# Altium footprint library BASIC Library.PCBLIB: 464 footprints (part 30 of 30)
Each footprint in its own frame and in the unit in brackets; x right, y up, seen from the top. Pads: shape width x height; smd on the part's side, far side on the other; paste and mask are expansions set on the pad; w line width, h text height; cw(c..) or ccw(c..) is an arc to the next point about the centre after c.
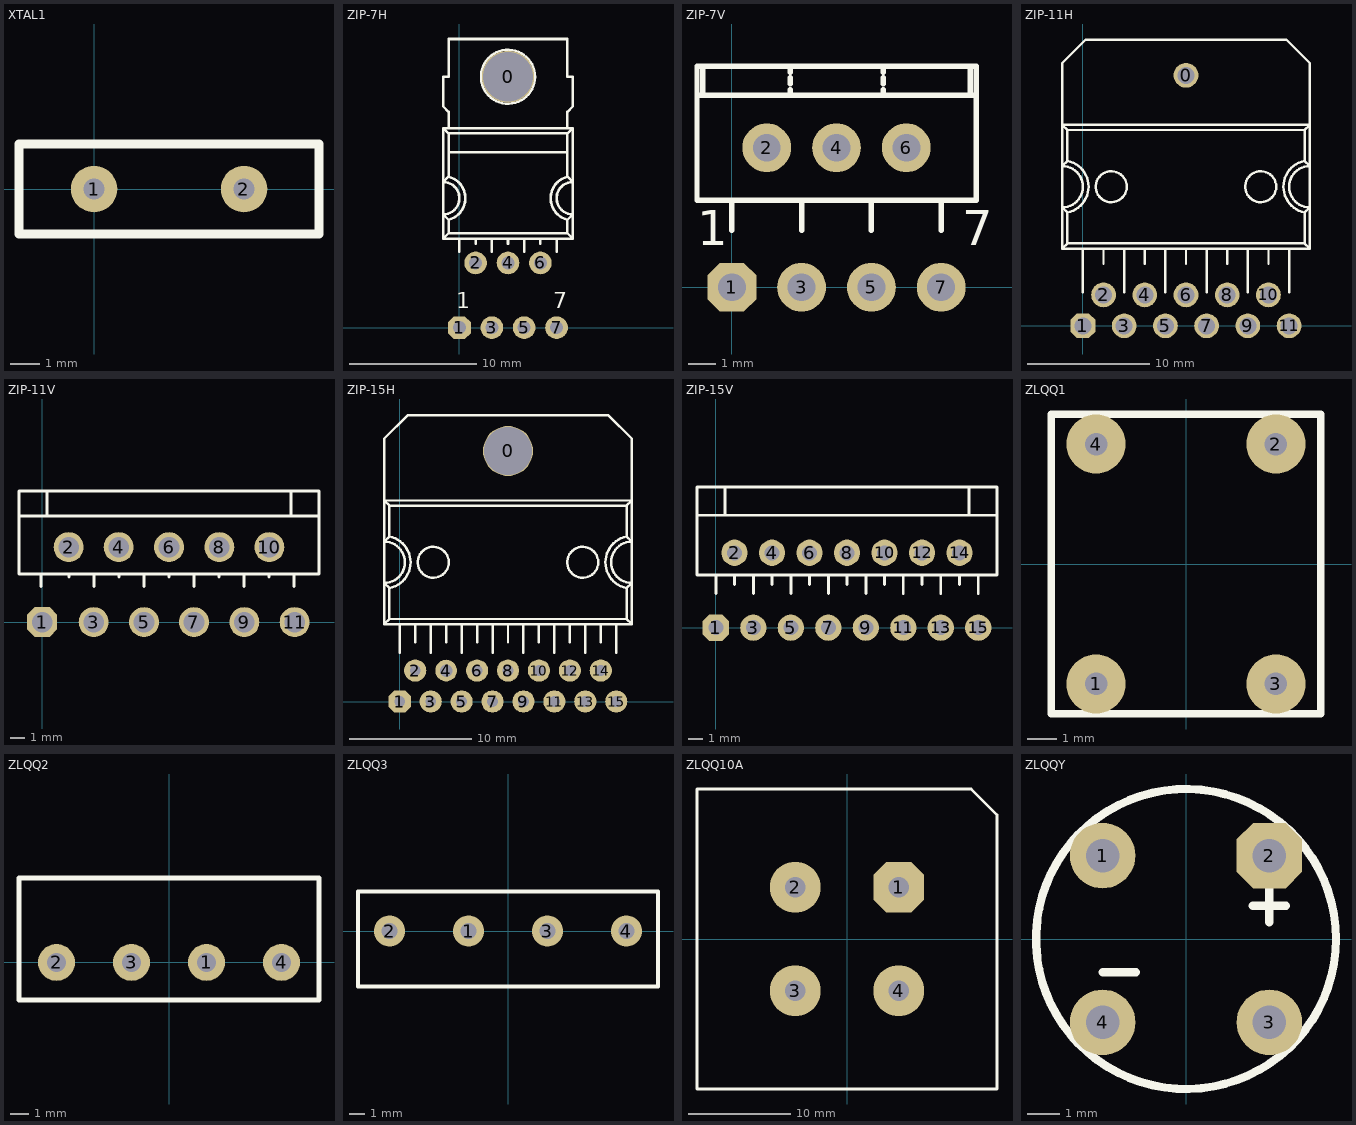
[diagram p29: the footprints below, top view; thin cyan lines are the x and y axes]

## XTAL1 [mil]
pads (2):
  round 62 hole 28: 1(0,0) 2(200,0)
TopOverlay:
  lines w12: -100,-60 300,-60 300,60 -100,60 -100,-60

## ZIP-7H [mil]
pads (8):
  round 161.65 hole 154.17: 0(150,775)
  oct 70x70 hole 40: 1(0,0)
  round 70 hole 40: 2(50,200) 3(100,0) 4(150,200) 5(200,0) 6(250,200) 7(300,0)
TopOverlay:
  circle w8: c150,775 r83.33
  lines w7.87: -50,350 -33.33,333.33 -33.33,291.67 ; -50,450 -33.33,466.67 -33.33,600 ; -33.33,541.67 333.33,541.67 ; -33.33,616.67 -33.33,666.67 -50,683.33 -50,775 -33.33,775 -33.33,891.67 333.33,891.67 333.33,775 350,775 350,683.33 333.33,666.67 333.33,616.67 ; 0,234.46 0,275 ; 50,259.06 50,275 ; 100,234.25 100,275 ; 150,259.06 150,275 ; 200,234.25 200,275 ; 250,259.06 250,275 ; 300,234.25 300,275 ; 350,350 333.33,333.33 333.33,291.67 ; 350,450 333.33,466.67 333.33,600 ; -50,275 350,275 ; -50,275 -50,616.67 ; -50,275 -33.33,291.67 ; -50,616.67 350,616.67 ; -50,616.67 -33.33,600 ; -33.33,291.67 333.33,291.67 ; -33.33,600 333.33,600 ; 333.33,291.67 350,275 ; 333.33,600 350,616.67 ; 350,275 350,616.67
  lines w8: -50,350 ccw(c-50,400) -50,450 ; -33.47,333.7 ccw(c-50,400) -33.47,466.3 ; 333.47,333.7 cw(c350,400) 333.47,466.3 ; 350,350 cw(c350,400) 350,450
  text "1" at -10,60 h50
  text "7" at 290,60 h50

## ZIP-7V [mil]
pads (7):
  oct 70x70 hole 40: 1(0,0)
  round 70 hole 40: 2(50,200) 3(100,0) 4(150,200) 5(200,0) 6(250,200) 7(300,0)
TopOverlay:
  lines w7.87: -50,275 350,275 ; -41.67,275 -41.67,316.67 ; 0,81.89 0,125 ; 83.33,275 83.33,283.33 ; 83.33,291.67 83.33,300 ; 83.33,308.33 83.33,316.67 ; 100,81.89 100,125 ; 200,81.89 200,125 ; 216.67,275 216.67,283.33 ; 216.67,291.67 216.67,300 ; 216.67,308.33 216.67,316.67 ; 300,81.89 300,125 ; 341.67,275 341.67,316.67 ; -50,125 -50,316.67 350,316.67 350,125 -50,125
  text "1" at -50,60 h50
  text "7" at 330,60 h50

## ZIP-11H [mil]
pads (12):
  round 80 hole 55: 0(333.33,810) 2(66.67,100) 3(133.33,0) 4(200,100) 5(266.67,0) 6(333.33,100) 7(400,0) 8(466.67,100) 9(533.33,0) 10(600,100) 11(666.67,0)
  oct 80x80 hole 55: 1(0,0)
TopOverlay:
  circle w8: c91.67,450 r50
  circle w8: c575,450 r50
  lines w7.87: -66.67,383.33 -50,366.67 -50,266.67 ; -66.67,516.67 -50,533.33 -50,633.33 ; 0,108.33 0,250 ; 66.67,200 66.67,250 ; 133.33,108.33 133.33,250 ; 200,200 200,250 ; 266.67,108.33 266.67,250 ; 333.33,200 333.33,250 ; 400,108.33 400,250 ; 466.67,200 466.67,250 ; 533.33,108.33 533.33,250 ; 600,200 600,250 ; 666.67,108.33 666.67,250 ; 733.33,383.33 716.67,366.67 716.67,266.67 ; 733.33,516.67 716.67,533.33 716.67,633.33 ; -66.67,250 -66.67,650 ; -66.67,250 733.33,250 ; -66.67,250 -50,266.67 ; -66.67,650 -66.67,850 8.33,925 658.33,925 733.33,850 733.33,650 ; -66.67,650 733.33,650 ; -66.67,650 -50,633.33 ; -50,266.67 716.67,266.67 ; -50,633.33 716.67,633.33 ; 716.67,266.67 733.33,250 ; 716.67,633.33 733.33,650 ; 733.33,250 733.33,650
  lines w8: -66.67,383.33 ccw(c-66.67,450) -66.67,516.67 ; -50.45,366.56 ccw(c-66.67,450) -50.45,533.44 ; 717.11,366.56 cw(c733.33,450) 717.11,533.44 ; 733.33,383.33 cw(c733.33,450) 733.33,516.67

## ZIP-11V [mil]
pads (11):
  oct 80x80 hole 55: 1(0,0)
  round 80 hole 55: 2(70.83,200) 3(137.5,0) 4(204.17,200) 5(271.67,0) 6(338.33,200) 7(405,0) 8(472.5,200) 9(539.17,0) 10(605.83,200) 11(673.33,0)
TopOverlay:
  lines w7.87: -3.33,94.89 -3.33,128.23 ; 13.33,283.33 13.33,350 ; 71.67,119.89 71.67,128.23 ; 138.33,94.89 138.33,128.23 ; 205,119.89 205,128.23 ; 271.67,94.89 271.67,128.23 ; 338.33,119.89 338.33,128.23 ; 405,94.89 405,128.23 ; 471.67,119.89 471.67,128.23 ; 538.33,94.89 538.33,128.23 ; 605,119.89 605,128.23 ; 663.33,283.33 663.33,350 ; 671.67,94.89 671.67,128.23 ; -61.67,283.33 -61.67,350 738.33,350 738.33,283.33 ; -61.67,283.33 738.33,283.33 ; -61.67,283.33 -61.67,128.23 738.33,128.23 738.33,283.33

## ZIP-15H [mil]
pads (16):
  round 161.67 hole 154.17: 0(350,810)
  oct 71.67x71.67 hole 35: 1(0,0)
  round 71.67 hole 35: 2(50,100) 3(100,0) 5(200,0) 6(250,100) 7(300,0) 8(350,100) 9(400,0) 10(450,100) 11(500,0) 12(550,100) 13(600,0) 14(650,100) 15(700,0)
  round 70 hole 40: 4(150,100)
TopOverlay:
  circle w8: c108.33,450 r50
  circle w8: c591.67,450 r50
  lines w7.87: -50,383.33 -33.33,366.67 -33.33,266.67 ; -50,516.67 -33.33,533.33 -33.33,633.33 ; 0,157.48 0,250 ; 50,191.67 50,250 ; 100,157.48 100,250 ; 150,191.67 150,250 ; 200,157.48 200,250 ; 250,191.67 250,250 ; 300,157.48 300,250 ; 350,191.67 350,250 ; 400,157.48 400,250 ; 450,191.67 450,250 ; 500,157.48 500,250 ; 550,191.67 550,250 ; 600,157.48 600,250 ; 650,191.67 650,250 ; 700,157.48 700,250 ; 750,383.33 733.33,366.67 733.33,266.67 ; 750,516.67 733.33,533.33 733.33,633.33 ; -50,250 -50,650 ; -50,250 750,250 ; -50,250 -33.33,266.67 ; -50,650 -50,850 25,925 675,925 750,850 750,650 ; -50,650 750,650 ; -50,650 -33.33,633.33 ; -33.33,266.67 733.33,266.67 ; -33.33,633.33 733.33,633.33 ; 733.33,266.67 750,250 ; 733.33,633.33 750,650 ; 750,250 750,650
  lines w8: -50,383.33 ccw(c-50,450) -50,516.67 ; -33.78,366.56 ccw(c-50,450) -33.78,533.44 ; 733.78,366.56 cw(c750,450) 733.78,533.44 ; 750,383.33 cw(c750,450) 750,516.67

## ZIP-15V [mil]
pads (15):
  oct 70x70 hole 40: 1(0,0)
  round 70 hole 40: 2(50,200) 3(100,0) 4(150,200) 5(200,0) 6(250,200) 7(300,0) 8(350,200) 9(400,0) 10(450,200) 11(500,0) 12(550,200) 13(600,0) 14(650,200) 15(700,0)
TopOverlay:
  lines w7.87: -50.16,140.91 -50,283.33 -50,375 750,375 750,300 ; -50,140.91 750,140.91 750,300 ; -50,300 750,300 ; 0,90.91 0,140.91 ; 25,300 25,375 ; 50,115.91 50,140.91 ; 100,90.91 100,140.91 ; 150,115.91 150,140.91 ; 200,90.91 200,140.91 ; 250,115.91 250,140.91 ; 300,90.91 300,140.91 ; 350,115.91 350,140.91 ; 400,90.91 400,140.91 ; 450,115.91 450,140.91 ; 500,90.91 500,140.91 ; 550,115.91 550,140.91 ; 600,90.91 600,140.91 ; 650,115.91 650,140.91 ; 675,300 675,375 ; 700,90.91 700,140.91

## ZLQQ1 [mil]
pads (4):
  round 78.74 hole 30: 1(-120,-160) 2(120,160) 3(120,-160) 4(-120,160)
TopOverlay:
  lines w10: -180,-200 180,-200 180,200 -180,200 -180,-200

## ZLQQ2 [mil]
pads (4):
  round 78.74 hole 40: 1(80,0) 2(-240,0) 3(-80,0) 4(240,0)
TopOverlay:
  lines w10: -320,-80 -320,0 -320,180 320,180 320,-80 -320,-80

## ZLQQ3 [mm]
pads (4):
  round 2 hole 1.016: 1(-2.54,0) 2(-7.62,0) 3(2.54,0) 4(7.62,0)
TopOverlay:
  lines w0.254: -9.652,-3.556 -9.652,-3.048 -9.652,2.032 -9.652,2.54 9.652,2.54 9.652,-3.556 -9.652,-3.556

## ZLQQ10A [mm]
pads (4):
  oct 5x5 hole 2.032: 1(5.08,5.08)
  round 5 hole 2.032: 2(-5.08,5.08) 3(-5.08,-5.08) 4(5.08,-5.08)
TopOverlay:
  lines w0.254: -14.732,-14.732 -14.732,14.732 0,14.732 12.192,14.732 14.732,12.192 14.732,-14.732 0,-14.732 -14.732,-14.732

## ZLQQY [mm]
pads (4):
  round 2 hole 1.016: 1(-2.54,2.54) 3(2.54,-2.54) 4(-2.54,-2.54)
  oct 2x2 hole 1.016: 2(2.54,2.54)
TopOverlay:
  circle w0.254: c0,0 r4.572
  lines w0.254: -2.54,-1.016 -1.524,-1.016 ; 2.032,1.016 3.048,1.016 ; 2.54,0.508 2.54,1.524